# Altium integrated library TI_Logic_Flip-Flop,Latch,Register.IntLib: 2598 symbols (part 30 of 122)
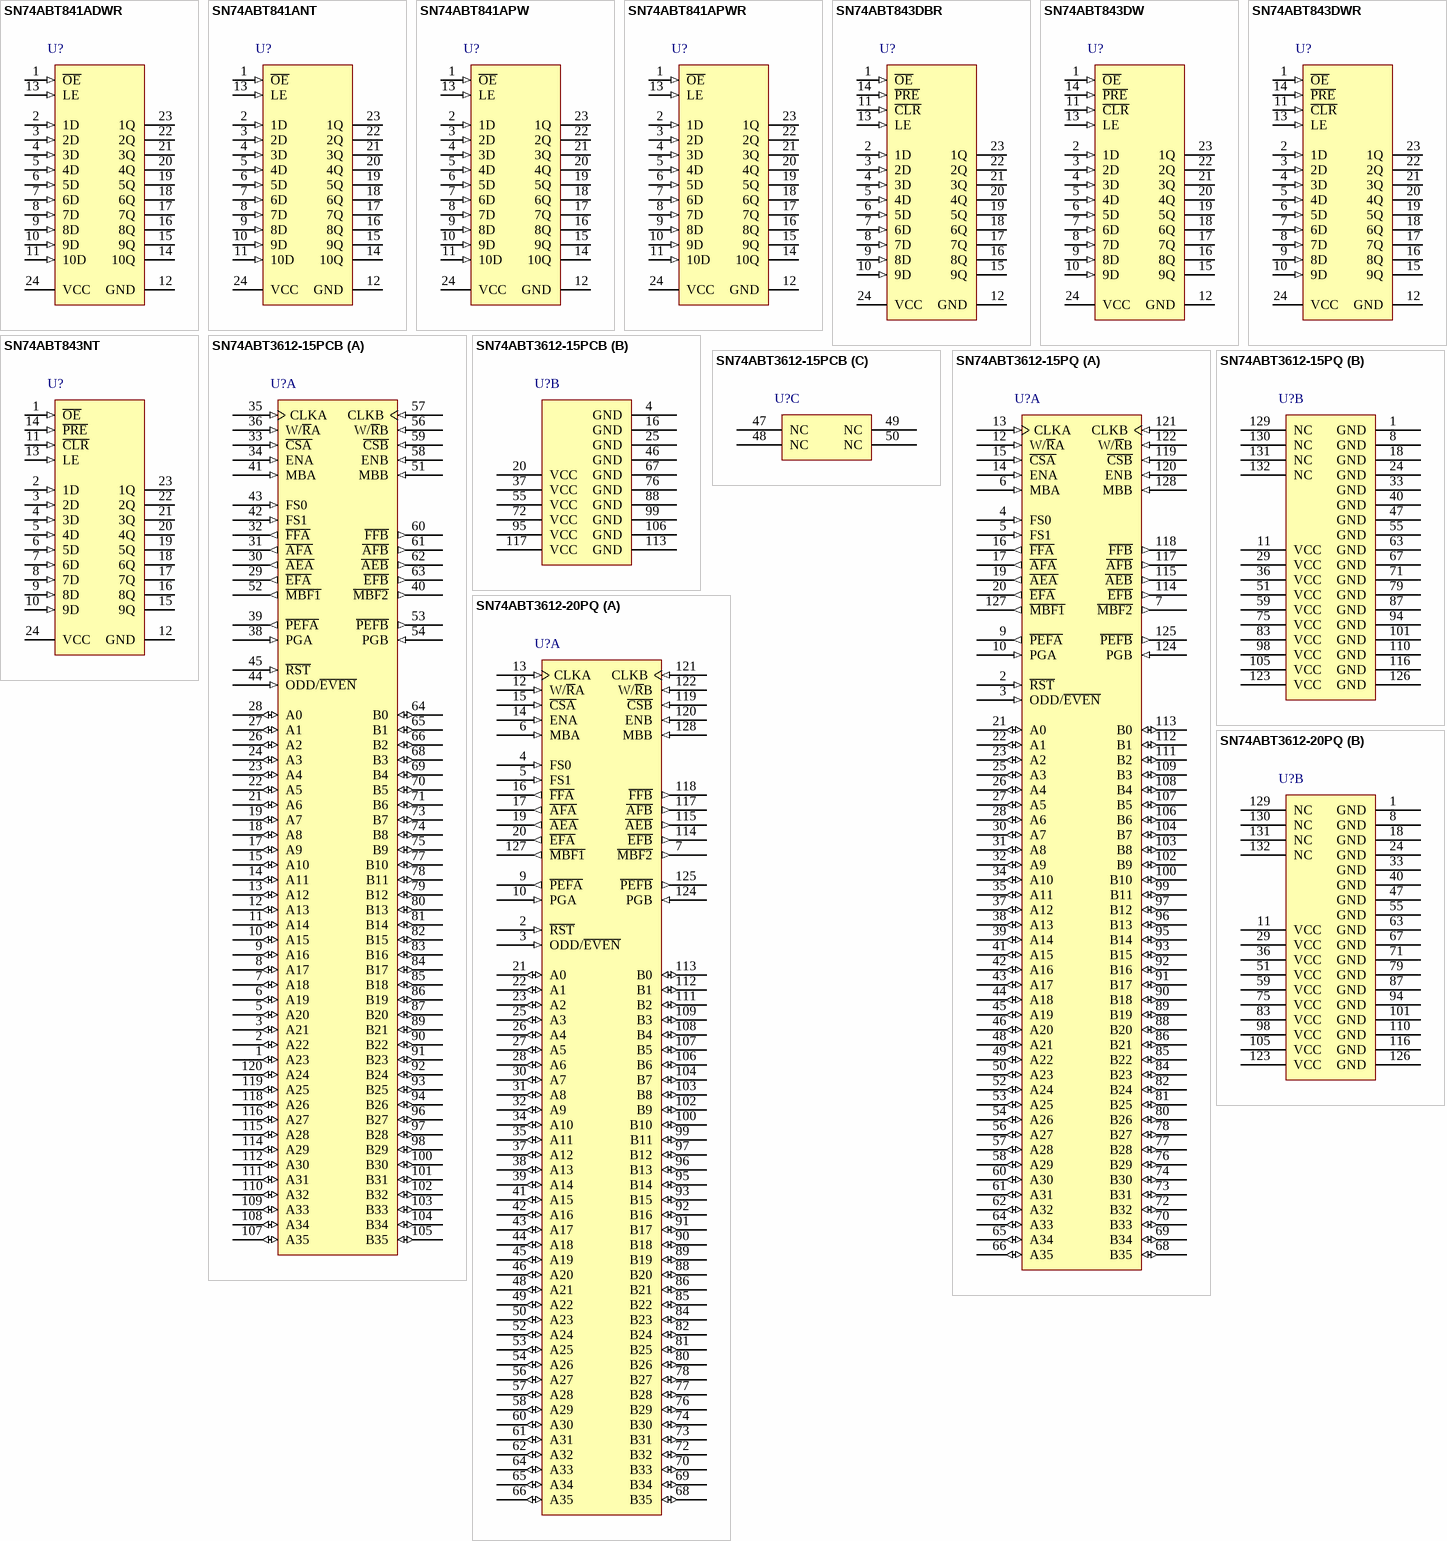
[diagram p168: symbols SN74ABT841ADWR to SN74ABT3612-20PQ]

## SN74ABT3612-15PQ
designator U?
64 x 36 x 2 bidirectional synchronous FIFO memory, PQ0132A, JEDEC TRAY (10+1); Generic Part Number: SN74ABT3612; Manufacturer: Texas Instruments; PartNumber: SN74ABT3612-15PQ; DatasheetVersion: SCBS129G; PackageReference: PQ0132A; Code_JEDEC: MO-069; ComponentLink1Description: Manufacturer URL; ComponentLink1URL: http://www.ti.com/; ComponentLink2Description: Datasheet; ComponentLink2URL: http://www.ti.com/lit/ds/symlink/sn74abt3612.pdf; ComponentLink3Description: Package Specification; ComponentLink3URL: http://www.ti.com/lit/ml/mbqf001a/mbqf001a.pdf
footprint PQ0132A_N (QFP, 132-Leads, Body 24.1x24.1mm, Pitch 0.635mm, IPC Medium Density)
footprint PQ0132A_M (QFP, 132-Leads, Body 24.1x24.1mm, Pitch 0.635mm, IPC Low Density)
footprint PQ0132A_L (QFP, 132-Leads, Body 24.1x24.1mm, Pitch 0.635mm, IPC High Density)
part A pins: 2 ~{RST} (in) "Reset. To reset the device, four low-to-high transitions of CLKA and four low-to-high transitions of CLKB must occur while R\S\T\ is low. This sets A\F\A\, A\F\B\, M\B\F\1\, and M\B\F\2\ high and E\F\A\, E\F\B\, A\E\A\, (See Datasheet)", 3 ODD/~{EVEN} (in) "Odd/even parity select. Odd parity is checked on each port when ODD/E\V\E\N\ is high and even parity is checked when ODD/E\V\E\N\ is low. ODD/E\V\E\N\ also selects the type of parity generated for each port if parity (See Datasheet)", 4 FS0 (in) "Flag-offset selects. The low-to-high transition of R\S\T\ latches the values of FS0 and FS1, which selects one of four preset values for the almost-empty flag and almost-full flag offset.", 5 FS1 (in) "Flag-offset selects. The low-to-high transition of R\S\T\ latches the values of FS0 and FS1, which selects one of four preset values for the almost-empty flag and almost-full flag offset.", 6 MBA (in) "Port-A mailbox select. A high level on MBA chooses a mailbox register for a port-A read or write operation. When the A0-A35 outputs are active, a high level on MBA selects data from the mail2 register for output and a low (See Datasheet)", 7 ~{MBF2} (out) "Mail2 register flag. M\B\F\2\ is set low by the low-to-high transition of CLKB that writes data to the mail2 register. Writes to the mail2 register are inhibited while M\B\F\2\ is low. M\B\F\2\ is set high by a low-to-high (See Datasheet)", 9 ~{PEFA} (out) "Port-A parity error flag. When any byte applied to A0-A35 fails parity, P\E\F\A\ is low. Bytes are organized as A0-A8, A9-A17, A18-A26, and A27-A35, with the most-significant bit of each byte serving as the parity bit. The (See Datasheet)", 10 PGA (in) "Port-A parity generation. Parity is generated for data reads from port A when PGA is high. The type of parity generated is selected by the state of ODD/E\V\E\N\. Bytes are organized as A0-A8, A9-A17, A18-A26, and A27-A35. (See Datasheet)", 12 W/~{R}A (in) "Port-A write/read select. W/R\A high selects a write operation and a low selects a read operation on port A for a low-to-high transition of CLKA. The A0-A35 outputs are in the high-impedance state when W/R\A is high.", 13 CLKA (in) "Port-A clock. CLKA is a continuous clock that synchronizes all data transfers through port A and can be asynchronous or coincident to CLKB. E\F\A\, F\F\A\, A\F\A\, and A\E\A\ are synchronized to the low-to-high transition of (See Datasheet)", 14 ENA (in) "Port-A enable. ENA must be high to enable a low-to-high transition of CLKA to read or write data on port A.", 15 ~{CSA} (in) "Port-A chip select. C\S\A\ must be low to enable a low-to-high transition of CLKA to read or write data on port A. The A0-A35 outputs are in the high-impedance state when C\S\A\ is high.", 16 ~{FFA} (out) "Port-A full flag. F\F\A\ is synchronized to the low-to-high transition of CLKA. When F\F\A\ is low, FIFO1 is full and writes to its memory are disabled. F\F\A\ is forced low when the device is reset and is set high by the (See Datasheet)", 17 ~{AFA} (out) "Port-A almost-full flag. Programmable flag synchronized to CLKA. A\F\A\ is low when the number of empty locations in FIFO1 is less than or equal to the value in offset register X.", 19 ~{AEA} (out) "Port-A almost-empty flag. Programmable flag synchronized to CLKA. A\E\A\ is low when the number of words in FIFO2 is less than or equal to the value in offset register X.", 20 ~{EFA} (out) "Port-A empty flag. E\F\A\ is synchronized to the low-to-high transition of CLKA. When E\F\A is low, FIFO2 is empty and reads from its memory are disabled. Data can be read from FIFO2 to the output register when E\F\A\ is (See Datasheet)", 21 A0 (io) "Port-A data. The 36-bit bidirectional data port for side A.", 22 A1 (io) "Port-A data. The 36-bit bidirectional data port for side A.", 23 A2 (io) "Port-A data. The 36-bit bidirectional data port for side A.", 25 A3 (io) "Port-A data. The 36-bit bidirectional data port for side A.", 26 A4 (io) "Port-A data. The 36-bit bidirectional data port for side A.", 27 A5 (io) "Port-A data. The 36-bit bidirectional data port for side A.", 28 A6 (io) "Port-A data. The 36-bit bidirectional data port for side A.", 30 A7 (io) "Port-A data. The 36-bit bidirectional data port for side A.", 31 A8 (io) "Port-A data. The 36-bit bidirectional data port for side A.", 32 A9 (io) "Port-A data. The 36-bit bidirectional data port for side A.", 34 A10 (io) "Port-A data. The 36-bit bidirectional data port for side A.", 35 A11 (io) "Port-A data. The 36-bit bidirectional data port for side A.", 37 A12 (io) "Port-A data. The 36-bit bidirectional data port for side A.", 38 A13 (io) "Port-A data. The 36-bit bidirectional data port for side A.", 39 A14 (io) "Port-A data. The 36-bit bidirectional data port for side A.", 41 A15 (io) "Port-A data. The 36-bit bidirectional data port for side A.", 42 A16 (io) "Port-A data. The 36-bit bidirectional data port for side A.", 43 A17 (io) "Port-A data. The 36-bit bidirectional data port for side A.", 44 A18 (io) "Port-A data. The 36-bit bidirectional data port for side A.", 45 A19 (io) "Port-A data. The 36-bit bidirectional data port for side A.", 46 A20 (io) "Port-A data. The 36-bit bidirectional data port for side A.", 48 A21 (io) "Port-A data. The 36-bit bidirectional data port for side A.", 49 A22 (io) "Port-A data. The 36-bit bidirectional data port for side A.", 50 A23 (io) "Port-A data. The 36-bit bidirectional data port for side A.", 52 A24 (io) "Port-A data. The 36-bit bidirectional data port for side A.", 53 A25 (io) "Port-A data. The 36-bit bidirectional data port for side A.", 54 A26 (io) "Port-A data. The 36-bit bidirectional data port for side A.", 56 A27 (io) "Port-A data. The 36-bit bidirectional data port for side A.", 57 A28 (io) "Port-A data. The 36-bit bidirectional data port for side A.", 58 A29 (io) "Port-A data. The 36-bit bidirectional data port for side A.", 60 A30 (io) "Port-A data. The 36-bit bidirectional data port for side A.", 61 A31 (io) "Port-A data. The 36-bit bidirectional data port for side A.", 62 A32 (io) "Port-A data. The 36-bit bidirectional data port for side A.", 64 A33 (io) "Port-A data. The 36-bit bidirectional data port for side A.", 65 A34 (io) "Port-A data. The 36-bit bidirectional data port for side A.", 66 A35 (io) "Port-A data. The 36-bit bidirectional data port for side A.", 68 B35 (io) "Port-B data. The 36-bit bidirectional data port for side B.", 69 B34 (io) "Port-B data. The 36-bit bidirectional data port for side B.", 70 B33 (io) "Port-B data. The 36-bit bidirectional data port for side B.", 72 B32 (io) "Port-B data. The 36-bit bidirectional data port for side B.", 73 B31 (io) "Port-B data. The 36-bit bidirectional data port for side B.", 74 B30 (io) "Port-B data. The 36-bit bidirectional data port for side B.", 76 B29 (io) "Port-B data. The 36-bit bidirectional data port for side B.", 77 B28 (io) "Port-B data. The 36-bit bidirectional data port for side B.", 78 B27 (io) "Port-B data. The 36-bit bidirectional data port for side B.", 80 B26 (io) "Port-B data. The 36-bit bidirectional data port for side B.", 81 B25 (io) "Port-B data. The 36-bit bidirectional data port for side B.", 82 B24 (io) "Port-B data. The 36-bit bidirectional data port for side B.", 84 B23 (io) "Port-B data. The 36-bit bidirectional data port for side B.", 85 B22 (io) "Port-B data. The 36-bit bidirectional data port for side B.", 86 B21 (io) "Port-B data. The 36-bit bidirectional data port for side B.", 88 B20 (io) "Port-B data. The 36-bit bidirectional data port for side B.", 89 B19 (io) "Port-B data. The 36-bit bidirectional data port for side B.", 90 B18 (io) "Port-B data. The 36-bit bidirectional data port for side B.", 91 B17 (io) "Port-B data. The 36-bit bidirectional data port for side B.", 92 B16 (io) "Port-B data. The 36-bit bidirectional data port for side B.", 93 B15 (io) "Port-B data. The 36-bit bidirectional data port for side B.", 95 B14 (io) "Port-B data. The 36-bit bidirectional data port for side B.", 96 B13 (io) "Port-B data. The 36-bit bidirectional data port for side B.", 97 B12 (io) "Port-B data. The 36-bit bidirectional data port for side B.", 99 B11 (io) "Port-B data. The 36-bit bidirectional data port for side B.", 100 B10 (io) "Port-B data. The 36-bit bidirectional data port for side B.", 102 B9 (io) "Port-B data. The 36-bit bidirectional data port for side B.", 103 B8 (io) "Port-B data. The 36-bit bidirectional data port for side B.", 104 B7 (io) "Port-B data. The 36-bit bidirectional data port for side B.", 106 B6 (io) "Port-B data. The 36-bit bidirectional data port for side B.", 107 B5 (io) "Port-B data. The 36-bit bidirectional data port for side B.", 108 B4 (io) "Port-B data. The 36-bit bidirectional data port for side B.", 109 B3 (io) "Port-B data. The 36-bit bidirectional data port for side B.", 111 B2 (io) "Port-B data. The 36-bit bidirectional data port for side B.", 112 B1 (io) "Port-B data. The 36-bit bidirectional data port for side B.", 113 B0 (io) "Port-B data. The 36-bit bidirectional data port for side B.", 114 ~{EFB} (out) "Port-B empty flag. E\F\B\ is synchronized to the low-to-high transition of CLKB. When E\F\B\ is low, FIFO1 is empty and reads from its memory are disabled. Data can be read from FIFO1 to the output register when E\F\B\ is (See Datasheet)", 115 ~{AEB} (out) "Port-B almost-empty flag. Programmable flag synchronized to CLKB. A\E\B\ is low when the number of words in FIFO1 is less than or equal to the value in offset register X.", 117 ~{AFB} (out) "Port-B almost-full flag. Programmable flag synchronized to CLKB. A\F\B\ is low when the number of empty locations in FIFO2 is less than or equal to the value in offset register X.", 118 ~{FFB} (out) "Port-B full flag. F\F\B\ is synchronized to the low-to-high transition of CLKB. When F\F\B\ is low, FIFO2 is full and writes to its memory are disabled. F\F\B\ is forced low when the device is reset and is set high by the (See Datasheet)", 119 ~{CSB} (in) "Port-B chip select. C\S\B\ must be low to enable a low-to-high transition of CLKB to read or write data on port B. The B0-B35 outputs are in the high-impedance state when C\S\B\ is high.", 120 ENB (in) "Port-B enable. ENB must be high to enable a low-to-high transition of CLKB to read or write data on port B.", 121 CLKB (in) "Port-B clock. CLKB is a continuous clock that synchronizes all data transfers through port B and can be asynchronous or coincident to CLKA. E\F\B\, F\F\B\, A\F\B\, and A\E\B\ are synchronized to the low-to-high transition of (See Datasheet)", 122 W/~{R}B (in) "Port-B write/read select. W/R\B high selects a write operation and a low selects a read operation on port B for a low-to-high transition of CLKB. The B0-B35 outputs are in the high-impedance state when W/R\B is high.", 124 PGB (in) "Port-B parity generation. Parity is generated for data reads from port B when PGB is high. The type of parity generated is selected by the state of ODD/E\V\E\N\. Bytes are organized as B0-B8, B9-B17, B18-B26, and B27-B35. (See Datasheet)", 125 ~{PEFB} (out) "Port-B parity error flag. When any byte applied to terminals B0-B35 fails parity, P\E\F\B\ is low. Bytes are organized as B0-B8, B9-B17, B18-B26, and B27-B35, with the most-significant bit of each byte serving as the parity (See Datasheet)", 127 ~{MBF1} (out) "Mail1 register flag. M\B\F\1\ is set low by the low-to-high transition of CLKA that writes data to the mail1 register. Writes to the mail1 register are inhibited while M\B\F\1\ is low. M\B\F\1\ is set high by a low-to-high (See Datasheet)", 128 MBB (in) "Port-B mailbox select. A high level on MBB chooses a mailbox register for a port-B read or write operation. When the B0-B35 outputs are active, a high level on MBB selects data from the mail1 register for output and a low (See Datasheet)"
part B pins: 1 GND (power), 8 GND (power), 11 VCC (power), 18 GND (power), 24 GND (power), 29 VCC (power), 33 GND (power), 36 VCC (power), 40 GND (power), 47 GND (power), 51 VCC (power), 55 GND (power), 59 VCC (power), 63 GND (power), 67 GND (power), 71 GND (power), 75 VCC (power), 79 GND (power), 83 VCC (power), 87 GND (power), 94 GND (power), 98 VCC (power), 101 GND (power), 105 VCC (power), 110 GND (power), 116 GND (power), 123 VCC (power), 126 GND (power), 129 NC, 130 NC, 131 NC, 132 NC

## SN74ABT3612-20PQ
designator U?
64 x 36 x 2 bidirectional synchronous FIFO memory, PQ0132A, JEDEC TRAY (10+1); Generic Part Number: SN74ABT3612; Manufacturer: Texas Instruments; PartNumber: SN74ABT3612-20PQ; DatasheetVersion: SCBS129G; PackageReference: PQ0132A; Code_JEDEC: MO-069; ComponentLink1Description: Manufacturer URL; ComponentLink1URL: http://www.ti.com/; ComponentLink2Description: Datasheet; ComponentLink2URL: http://www.ti.com/lit/ds/symlink/sn74abt3612.pdf; ComponentLink3Description: Package Specification; ComponentLink3URL: http://www.ti.com/lit/ml/mbqf001a/mbqf001a.pdf
footprint PQ0132A_N (QFP, 132-Leads, Body 24.1x24.1mm, Pitch 0.635mm, IPC Medium Density)
footprint PQ0132A_M (QFP, 132-Leads, Body 24.1x24.1mm, Pitch 0.635mm, IPC Low Density)
footprint PQ0132A_L (QFP, 132-Leads, Body 24.1x24.1mm, Pitch 0.635mm, IPC High Density)
part A pins: 2 ~{RST} (in) "Reset. To reset the device, four low-to-high transitions of CLKA and four low-to-high transitions of CLKB must occur while R\S\T\ is low. This sets A\F\A\, A\F\B\, M\B\F\1\, and M\B\F\2\ high and E\F\A\, E\F\B\, A\E\A\, (See Datasheet)", 3 ODD/~{EVEN} (in) "Odd/even parity select. Odd parity is checked on each port when ODD/E\V\E\N\ is high and even parity is checked when ODD/E\V\E\N\ is low. ODD/E\V\E\N\ also selects the type of parity generated for each port if parity (See Datasheet)", 4 FS0 (in) "Flag-offset selects. The low-to-high transition of R\S\T\ latches the values of FS0 and FS1, which selects one of four preset values for the almost-empty flag and almost-full flag offset.", 5 FS1 (in) "Flag-offset selects. The low-to-high transition of R\S\T\ latches the values of FS0 and FS1, which selects one of four preset values for the almost-empty flag and almost-full flag offset.", 6 MBA (in) "Port-A mailbox select. A high level on MBA chooses a mailbox register for a port-A read or write operation. When the A0-A35 outputs are active, a high level on MBA selects data from the mail2 register for output and a low (See Datasheet)", 7 ~{MBF2} (out) "Mail2 register flag. M\B\F\2\ is set low by the low-to-high transition of CLKB that writes data to the mail2 register. Writes to the mail2 register are inhibited while M\B\F\2\ is low. M\B\F\2\ is set high by a low-to-high (See Datasheet)", 9 ~{PEFA} (out) "Port-A parity error flag. When any byte applied to A0-A35 fails parity, P\E\F\A\ is low. Bytes are organized as A0-A8, A9-A17, A18-A26, and A27-A35, with the most-significant bit of each byte serving as the parity bit. The (See Datasheet)", 10 PGA (in) "Port-A parity generation. Parity is generated for data reads from port A when PGA is high. The type of parity generated is selected by the state of ODD/E\V\E\N\. Bytes are organized as A0-A8, A9-A17, A18-A26, and A27-A35. (See Datasheet)", 12 W/~{R}A (in) "Port-A write/read select. W/R\A high selects a write operation and a low selects a read operation on port A for a low-to-high transition of CLKA. The A0-A35 outputs are in the high-impedance state when W/R\A is high.", 13 CLKA (in) "Port-A clock. CLKA is a continuous clock that synchronizes all data transfers through port A and can be asynchronous or coincident to CLKB. E\F\A\, F\F\A\, A\F\A\, and A\E\A\ are synchronized to the low-to-high transition of (See Datasheet)", 14 ENA (in) "Port-A enable. ENA must be high to enable a low-to-high transition of CLKA to read or write data on port A.", 15 ~{CSA} (in) "Port-A chip select. C\S\A\ must be low to enable a low-to-high transition of CLKA to read or write data on port A. The A0-A35 outputs are in the high-impedance state when C\S\A\ is high.", 16 ~{FFA} (out) "Port-A full flag. F\F\A\ is synchronized to the low-to-high transition of CLKA. When F\F\A\ is low, FIFO1 is full and writes to its memory are disabled. F\F\A\ is forced low when the device is reset and is set high by the (See Datasheet)", 17 ~{AFA} (out) "Port-A almost-full flag. Programmable flag synchronized to CLKA. A\F\A\ is low when the number of empty locations in FIFO1 is less than or equal to the value in offset register X.", 19 ~{AEA} (out) "Port-A almost-empty flag. Programmable flag synchronized to CLKA. A\E\A\ is low when the number of words in FIFO2 is less than or equal to the value in offset register X.", 20 ~{EFA} (out) "Port-A empty flag. E\F\A\ is synchronized to the low-to-high transition of CLKA. When E\F\A is low, FIFO2 is empty and reads from its memory are disabled. Data can be read from FIFO2 to the output register when E\F\A\ is (See Datasheet)", 21 A0 (io) "Port-A data. The 36-bit bidirectional data port for side A.", 22 A1 (io) "Port-A data. The 36-bit bidirectional data port for side A.", 23 A2 (io) "Port-A data. The 36-bit bidirectional data port for side A.", 25 A3 (io) "Port-A data. The 36-bit bidirectional data port for side A.", 26 A4 (io) "Port-A data. The 36-bit bidirectional data port for side A.", 27 A5 (io) "Port-A data. The 36-bit bidirectional data port for side A.", 28 A6 (io) "Port-A data. The 36-bit bidirectional data port for side A.", 30 A7 (io) "Port-A data. The 36-bit bidirectional data port for side A.", 31 A8 (io) "Port-A data. The 36-bit bidirectional data port for side A.", 32 A9 (io) "Port-A data. The 36-bit bidirectional data port for side A.", 34 A10 (io) "Port-A data. The 36-bit bidirectional data port for side A.", 35 A11 (io) "Port-A data. The 36-bit bidirectional data port for side A.", 37 A12 (io) "Port-A data. The 36-bit bidirectional data port for side A.", 38 A13 (io) "Port-A data. The 36-bit bidirectional data port for side A.", 39 A14 (io) "Port-A data. The 36-bit bidirectional data port for side A.", 41 A15 (io) "Port-A data. The 36-bit bidirectional data port for side A.", 42 A16 (io) "Port-A data. The 36-bit bidirectional data port for side A.", 43 A17 (io) "Port-A data. The 36-bit bidirectional data port for side A.", 44 A18 (io) "Port-A data. The 36-bit bidirectional data port for side A.", 45 A19 (io) "Port-A data. The 36-bit bidirectional data port for side A.", 46 A20 (io) "Port-A data. The 36-bit bidirectional data port for side A.", 48 A21 (io) "Port-A data. The 36-bit bidirectional data port for side A.", 49 A22 (io) "Port-A data. The 36-bit bidirectional data port for side A.", 50 A23 (io) "Port-A data. The 36-bit bidirectional data port for side A.", 52 A24 (io) "Port-A data. The 36-bit bidirectional data port for side A.", 53 A25 (io) "Port-A data. The 36-bit bidirectional data port for side A.", 54 A26 (io) "Port-A data. The 36-bit bidirectional data port for side A.", 56 A27 (io) "Port-A data. The 36-bit bidirectional data port for side A.", 57 A28 (io) "Port-A data. The 36-bit bidirectional data port for side A.", 58 A29 (io) "Port-A data. The 36-bit bidirectional data port for side A.", 60 A30 (io) "Port-A data. The 36-bit bidirectional data port for side A.", 61 A31 (io) "Port-A data. The 36-bit bidirectional data port for side A.", 62 A32 (io) "Port-A data. The 36-bit bidirectional data port for side A.", 64 A33 (io) "Port-A data. The 36-bit bidirectional data port for side A.", 65 A34 (io) "Port-A data. The 36-bit bidirectional data port for side A.", 66 A35 (io) "Port-A data. The 36-bit bidirectional data port for side A.", 68 B35 (io) "Port-B data. The 36-bit bidirectional data port for side B.", 69 B34 (io) "Port-B data. The 36-bit bidirectional data port for side B.", 70 B33 (io) "Port-B data. The 36-bit bidirectional data port for side B.", 72 B32 (io) "Port-B data. The 36-bit bidirectional data port for side B.", 73 B31 (io) "Port-B data. The 36-bit bidirectional data port for side B.", 74 B30 (io) "Port-B data. The 36-bit bidirectional data port for side B.", 76 B29 (io) "Port-B data. The 36-bit bidirectional data port for side B.", 77 B28 (io) "Port-B data. The 36-bit bidirectional data port for side B.", 78 B27 (io) "Port-B data. The 36-bit bidirectional data port for side B.", 80 B26 (io) "Port-B data. The 36-bit bidirectional data port for side B.", 81 B25 (io) "Port-B data. The 36-bit bidirectional data port for side B.", 82 B24 (io) "Port-B data. The 36-bit bidirectional data port for side B.", 84 B23 (io) "Port-B data. The 36-bit bidirectional data port for side B.", 85 B22 (io) "Port-B data. The 36-bit bidirectional data port for side B.", 86 B21 (io) "Port-B data. The 36-bit bidirectional data port for side B.", 88 B20 (io) "Port-B data. The 36-bit bidirectional data port for side B.", 89 B19 (io) "Port-B data. The 36-bit bidirectional data port for side B.", 90 B18 (io) "Port-B data. The 36-bit bidirectional data port for side B.", 91 B17 (io) "Port-B data. The 36-bit bidirectional data port for side B.", 92 B16 (io) "Port-B data. The 36-bit bidirectional data port for side B.", 93 B15 (io) "Port-B data. The 36-bit bidirectional data port for side B.", 95 B14 (io) "Port-B data. The 36-bit bidirectional data port for side B.", 96 B13 (io) "Port-B data. The 36-bit bidirectional data port for side B.", 97 B12 (io) "Port-B data. The 36-bit bidirectional data port for side B.", 99 B11 (io) "Port-B data. The 36-bit bidirectional data port for side B.", 100 B10 (io) "Port-B data. The 36-bit bidirectional data port for side B.", 102 B9 (io) "Port-B data. The 36-bit bidirectional data port for side B.", 103 B8 (io) "Port-B data. The 36-bit bidirectional data port for side B.", 104 B7 (io) "Port-B data. The 36-bit bidirectional data port for side B.", 106 B6 (io) "Port-B data. The 36-bit bidirectional data port for side B.", 107 B5 (io) "Port-B data. The 36-bit bidirectional data port for side B.", 108 B4 (io) "Port-B data. The 36-bit bidirectional data port for side B.", 109 B3 (io) "Port-B data. The 36-bit bidirectional data port for side B.", 111 B2 (io) "Port-B data. The 36-bit bidirectional data port for side B.", 112 B1 (io) "Port-B data. The 36-bit bidirectional data port for side B.", 113 B0 (io) "Port-B data. The 36-bit bidirectional data port for side B.", 114 ~{EFB} (out) "Port-B empty flag. E\F\B\ is synchronized to the low-to-high transition of CLKB. When E\F\B\ is low, FIFO1 is empty and reads from its memory are disabled. Data can be read from FIFO1 to the output register when E\F\B\ is (See Datasheet)", 115 ~{AEB} (out) "Port-B almost-empty flag. Programmable flag synchronized to CLKB. A\E\B\ is low when the number of words in FIFO1 is less than or equal to the value in offset register X.", 117 ~{AFB} (out) "Port-B almost-full flag. Programmable flag synchronized to CLKB. A\F\B\ is low when the number of empty locations in FIFO2 is less than or equal to the value in offset register X.", 118 ~{FFB} (out) "Port-B full flag. F\F\B\ is synchronized to the low-to-high transition of CLKB. When F\F\B\ is low, FIFO2 is full and writes to its memory are disabled. F\F\B\ is forced low when the device is reset and is set high by the (See Datasheet)", 119 ~{CSB} (in) "Port-B chip select. C\S\B\ must be low to enable a low-to-high transition of CLKB to read or write data on port B. The B0-B35 outputs are in the high-impedance state when C\S\B\ is high.", 120 ENB (in) "Port-B enable. ENB must be high to enable a low-to-high transition of CLKB to read or write data on port B.", 121 CLKB (in) "Port-B clock. CLKB is a continuous clock that synchronizes all data transfers through port B and can be asynchronous or coincident to CLKA. E\F\B\, F\F\B\, A\F\B\, and A\E\B\ are synchronized to the low-to-high transition of (See Datasheet)", 122 W/~{R}B (in) "Port-B write/read select. W/R\B high selects a write operation and a low selects a read operation on port B for a low-to-high transition of CLKB. The B0-B35 outputs are in the high-impedance state when W/R\B is high.", 124 PGB (in) "Port-B parity generation. Parity is generated for data reads from port B when PGB is high. The type of parity generated is selected by the state of ODD/E\V\E\N\. Bytes are organized as B0-B8, B9-B17, B18-B26, and B27-B35. (See Datasheet)", 125 ~{PEFB} (out) "Port-B parity error flag. When any byte applied to terminals B0-B35 fails parity, P\E\F\B\ is low. Bytes are organized as B0-B8, B9-B17, B18-B26, and B27-B35, with the most-significant bit of each byte serving as the parity (See Datasheet)", 127 ~{MBF1} (out) "Mail1 register flag. M\B\F\1\ is set low by the low-to-high transition of CLKA that writes data to the mail1 register. Writes to the mail1 register are inhibited while M\B\F\1\ is low. M\B\F\1\ is set high by a low-to-high (See Datasheet)", 128 MBB (in) "Port-B mailbox select. A high level on MBB chooses a mailbox register for a port-B read or write operation. When the B0-B35 outputs are active, a high level on MBB selects data from the mail1 register for output and a low (See Datasheet)"
part B pins: 1 GND (power), 8 GND (power), 11 VCC (power), 18 GND (power), 24 GND (power), 29 VCC (power), 33 GND (power), 36 VCC (power), 40 GND (power), 47 GND (power), 51 VCC (power), 55 GND (power), 59 VCC (power), 63 GND (power), 67 GND (power), 71 GND (power), 75 VCC (power), 79 GND (power), 83 VCC (power), 87 GND (power), 94 GND (power), 98 VCC (power), 101 GND (power), 105 VCC (power), 110 GND (power), 116 GND (power), 123 VCC (power), 126 GND (power), 129 NC, 130 NC, 131 NC, 132 NC

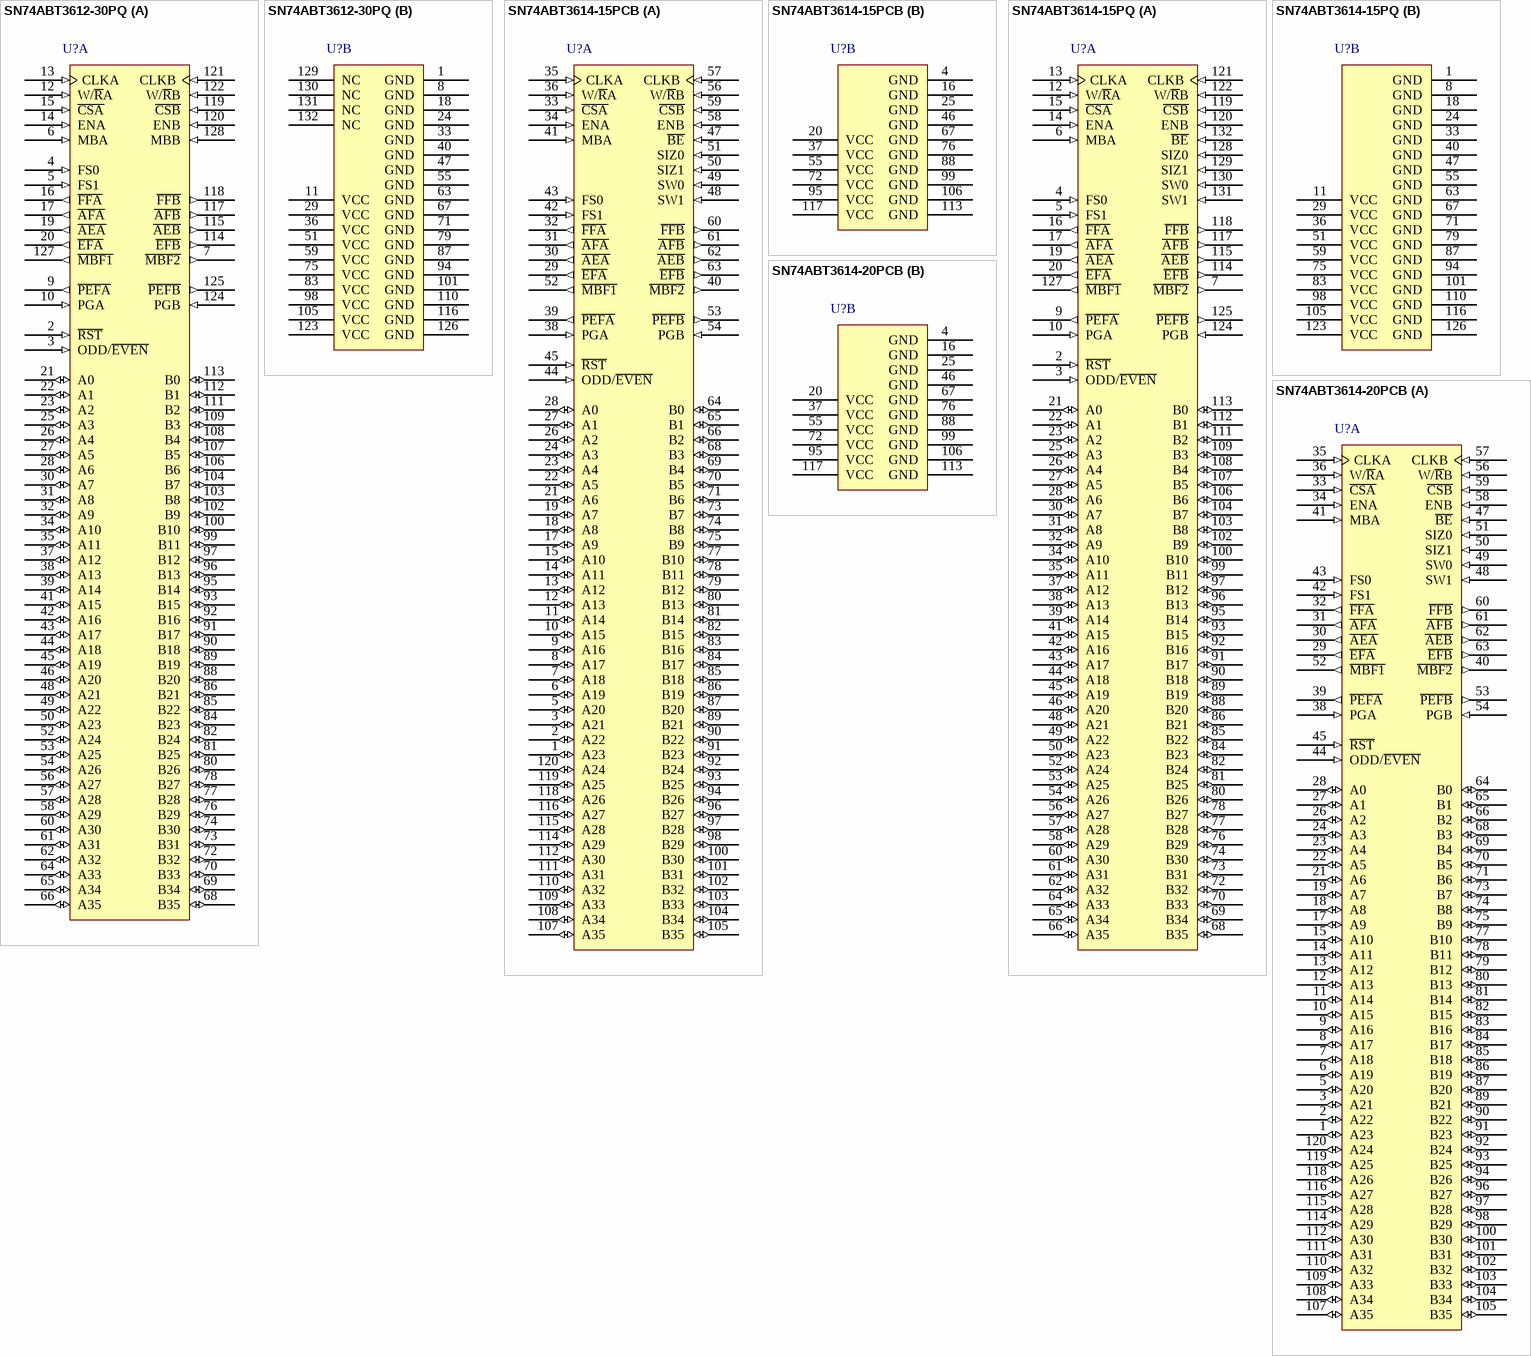
[diagram p43: symbols SN74ABT3612-30PQ to SN74ABT3614-20PCB]

## SN74ABT3612-30PQ
designator U?
64 x 36 x 2 bidirectional synchronous FIFO memory, PQ0132A, JEDEC TRAY (10+1); Generic Part Number: SN74ABT3612; Manufacturer: Texas Instruments; PartNumber: SN74ABT3612-30PQ; DatasheetVersion: SCBS129G; PackageReference: PQ0132A; Code_JEDEC: MO-069; ComponentLink1Description: Manufacturer URL; ComponentLink1URL: http://www.ti.com/; ComponentLink2Description: Datasheet; ComponentLink2URL: http://www.ti.com/lit/ds/symlink/sn74abt3612.pdf; ComponentLink3Description: Package Specification; ComponentLink3URL: http://www.ti.com/lit/ml/mbqf001a/mbqf001a.pdf
footprint PQ0132A_N (QFP, 132-Leads, Body 24.1x24.1mm, Pitch 0.635mm, IPC Medium Density)
footprint PQ0132A_M (QFP, 132-Leads, Body 24.1x24.1mm, Pitch 0.635mm, IPC Low Density)
footprint PQ0132A_L (QFP, 132-Leads, Body 24.1x24.1mm, Pitch 0.635mm, IPC High Density)
part A pins: 2 ~{RST} (in) "Reset. To reset the device, four low-to-high transitions of CLKA and four low-to-high transitions of CLKB must occur while R\S\T\ is low. This sets A\F\A\, A\F\B\, M\B\F\1\, and M\B\F\2\ high and E\F\A\, E\F\B\, A\E\A\, (See Datasheet)", 3 ODD/~{EVEN} (in) "Odd/even parity select. Odd parity is checked on each port when ODD/E\V\E\N\ is high and even parity is checked when ODD/E\V\E\N\ is low. ODD/E\V\E\N\ also selects the type of parity generated for each port if parity (See Datasheet)", 4 FS0 (in) "Flag-offset selects. The low-to-high transition of R\S\T\ latches the values of FS0 and FS1, which selects one of four preset values for the almost-empty flag and almost-full flag offset.", 5 FS1 (in) "Flag-offset selects. The low-to-high transition of R\S\T\ latches the values of FS0 and FS1, which selects one of four preset values for the almost-empty flag and almost-full flag offset.", 6 MBA (in) "Port-A mailbox select. A high level on MBA chooses a mailbox register for a port-A read or write operation. When the A0-A35 outputs are active, a high level on MBA selects data from the mail2 register for output and a low (See Datasheet)", 7 ~{MBF2} (out) "Mail2 register flag. M\B\F\2\ is set low by the low-to-high transition of CLKB that writes data to the mail2 register. Writes to the mail2 register are inhibited while M\B\F\2\ is low. M\B\F\2\ is set high by a low-to-high (See Datasheet)", 9 ~{PEFA} (out) "Port-A parity error flag. When any byte applied to A0-A35 fails parity, P\E\F\A\ is low. Bytes are organized as A0-A8, A9-A17, A18-A26, and A27-A35, with the most-significant bit of each byte serving as the parity bit. The (See Datasheet)", 10 PGA (in) "Port-A parity generation. Parity is generated for data reads from port A when PGA is high. The type of parity generated is selected by the state of ODD/E\V\E\N\. Bytes are organized as A0-A8, A9-A17, A18-A26, and A27-A35. (See Datasheet)", 12 W/~{R}A (in) "Port-A write/read select. W/R\A high selects a write operation and a low selects a read operation on port A for a low-to-high transition of CLKA. The A0-A35 outputs are in the high-impedance state when W/R\A is high.", 13 CLKA (in) "Port-A clock. CLKA is a continuous clock that synchronizes all data transfers through port A and can be asynchronous or coincident to CLKB. E\F\A\, F\F\A\, A\F\A\, and A\E\A\ are synchronized to the low-to-high transition of (See Datasheet)", 14 ENA (in) "Port-A enable. ENA must be high to enable a low-to-high transition of CLKA to read or write data on port A.", 15 ~{CSA} (in) "Port-A chip select. C\S\A\ must be low to enable a low-to-high transition of CLKA to read or write data on port A. The A0-A35 outputs are in the high-impedance state when C\S\A\ is high.", 16 ~{FFA} (out) "Port-A full flag. F\F\A\ is synchronized to the low-to-high transition of CLKA. When F\F\A\ is low, FIFO1 is full and writes to its memory are disabled. F\F\A\ is forced low when the device is reset and is set high by the (See Datasheet)", 17 ~{AFA} (out) "Port-A almost-full flag. Programmable flag synchronized to CLKA. A\F\A\ is low when the number of empty locations in FIFO1 is less than or equal to the value in offset register X.", 19 ~{AEA} (out) "Port-A almost-empty flag. Programmable flag synchronized to CLKA. A\E\A\ is low when the number of words in FIFO2 is less than or equal to the value in offset register X.", 20 ~{EFA} (out) "Port-A empty flag. E\F\A\ is synchronized to the low-to-high transition of CLKA. When E\F\A is low, FIFO2 is empty and reads from its memory are disabled. Data can be read from FIFO2 to the output register when E\F\A\ is (See Datasheet)", 21 A0 (io) "Port-A data. The 36-bit bidirectional data port for side A.", 22 A1 (io) "Port-A data. The 36-bit bidirectional data port for side A.", 23 A2 (io) "Port-A data. The 36-bit bidirectional data port for side A.", 25 A3 (io) "Port-A data. The 36-bit bidirectional data port for side A.", 26 A4 (io) "Port-A data. The 36-bit bidirectional data port for side A.", 27 A5 (io) "Port-A data. The 36-bit bidirectional data port for side A.", 28 A6 (io) "Port-A data. The 36-bit bidirectional data port for side A.", 30 A7 (io) "Port-A data. The 36-bit bidirectional data port for side A.", 31 A8 (io) "Port-A data. The 36-bit bidirectional data port for side A.", 32 A9 (io) "Port-A data. The 36-bit bidirectional data port for side A.", 34 A10 (io) "Port-A data. The 36-bit bidirectional data port for side A.", 35 A11 (io) "Port-A data. The 36-bit bidirectional data port for side A.", 37 A12 (io) "Port-A data. The 36-bit bidirectional data port for side A.", 38 A13 (io) "Port-A data. The 36-bit bidirectional data port for side A.", 39 A14 (io) "Port-A data. The 36-bit bidirectional data port for side A.", 41 A15 (io) "Port-A data. The 36-bit bidirectional data port for side A.", 42 A16 (io) "Port-A data. The 36-bit bidirectional data port for side A.", 43 A17 (io) "Port-A data. The 36-bit bidirectional data port for side A.", 44 A18 (io) "Port-A data. The 36-bit bidirectional data port for side A.", 45 A19 (io) "Port-A data. The 36-bit bidirectional data port for side A.", 46 A20 (io) "Port-A data. The 36-bit bidirectional data port for side A.", 48 A21 (io) "Port-A data. The 36-bit bidirectional data port for side A.", 49 A22 (io) "Port-A data. The 36-bit bidirectional data port for side A.", 50 A23 (io) "Port-A data. The 36-bit bidirectional data port for side A.", 52 A24 (io) "Port-A data. The 36-bit bidirectional data port for side A.", 53 A25 (io) "Port-A data. The 36-bit bidirectional data port for side A.", 54 A26 (io) "Port-A data. The 36-bit bidirectional data port for side A.", 56 A27 (io) "Port-A data. The 36-bit bidirectional data port for side A.", 57 A28 (io) "Port-A data. The 36-bit bidirectional data port for side A.", 58 A29 (io) "Port-A data. The 36-bit bidirectional data port for side A.", 60 A30 (io) "Port-A data. The 36-bit bidirectional data port for side A.", 61 A31 (io) "Port-A data. The 36-bit bidirectional data port for side A.", 62 A32 (io) "Port-A data. The 36-bit bidirectional data port for side A.", 64 A33 (io) "Port-A data. The 36-bit bidirectional data port for side A.", 65 A34 (io) "Port-A data. The 36-bit bidirectional data port for side A.", 66 A35 (io) "Port-A data. The 36-bit bidirectional data port for side A.", 68 B35 (io) "Port-B data. The 36-bit bidirectional data port for side B.", 69 B34 (io) "Port-B data. The 36-bit bidirectional data port for side B.", 70 B33 (io) "Port-B data. The 36-bit bidirectional data port for side B.", 72 B32 (io) "Port-B data. The 36-bit bidirectional data port for side B.", 73 B31 (io) "Port-B data. The 36-bit bidirectional data port for side B.", 74 B30 (io) "Port-B data. The 36-bit bidirectional data port for side B.", 76 B29 (io) "Port-B data. The 36-bit bidirectional data port for side B.", 77 B28 (io) "Port-B data. The 36-bit bidirectional data port for side B.", 78 B27 (io) "Port-B data. The 36-bit bidirectional data port for side B.", 80 B26 (io) "Port-B data. The 36-bit bidirectional data port for side B.", 81 B25 (io) "Port-B data. The 36-bit bidirectional data port for side B.", 82 B24 (io) "Port-B data. The 36-bit bidirectional data port for side B.", 84 B23 (io) "Port-B data. The 36-bit bidirectional data port for side B.", 85 B22 (io) "Port-B data. The 36-bit bidirectional data port for side B.", 86 B21 (io) "Port-B data. The 36-bit bidirectional data port for side B.", 88 B20 (io) "Port-B data. The 36-bit bidirectional data port for side B.", 89 B19 (io) "Port-B data. The 36-bit bidirectional data port for side B.", 90 B18 (io) "Port-B data. The 36-bit bidirectional data port for side B.", 91 B17 (io) "Port-B data. The 36-bit bidirectional data port for side B.", 92 B16 (io) "Port-B data. The 36-bit bidirectional data port for side B.", 93 B15 (io) "Port-B data. The 36-bit bidirectional data port for side B.", 95 B14 (io) "Port-B data. The 36-bit bidirectional data port for side B.", 96 B13 (io) "Port-B data. The 36-bit bidirectional data port for side B.", 97 B12 (io) "Port-B data. The 36-bit bidirectional data port for side B.", 99 B11 (io) "Port-B data. The 36-bit bidirectional data port for side B.", 100 B10 (io) "Port-B data. The 36-bit bidirectional data port for side B.", 102 B9 (io) "Port-B data. The 36-bit bidirectional data port for side B.", 103 B8 (io) "Port-B data. The 36-bit bidirectional data port for side B.", 104 B7 (io) "Port-B data. The 36-bit bidirectional data port for side B.", 106 B6 (io) "Port-B data. The 36-bit bidirectional data port for side B.", 107 B5 (io) "Port-B data. The 36-bit bidirectional data port for side B.", 108 B4 (io) "Port-B data. The 36-bit bidirectional data port for side B.", 109 B3 (io) "Port-B data. The 36-bit bidirectional data port for side B.", 111 B2 (io) "Port-B data. The 36-bit bidirectional data port for side B.", 112 B1 (io) "Port-B data. The 36-bit bidirectional data port for side B.", 113 B0 (io) "Port-B data. The 36-bit bidirectional data port for side B.", 114 ~{EFB} (out) "Port-B empty flag. E\F\B\ is synchronized to the low-to-high transition of CLKB. When E\F\B\ is low, FIFO1 is empty and reads from its memory are disabled. Data can be read from FIFO1 to the output register when E\F\B\ is (See Datasheet)", 115 ~{AEB} (out) "Port-B almost-empty flag. Programmable flag synchronized to CLKB. A\E\B\ is low when the number of words in FIFO1 is less than or equal to the value in offset register X.", 117 ~{AFB} (out) "Port-B almost-full flag. Programmable flag synchronized to CLKB. A\F\B\ is low when the number of empty locations in FIFO2 is less than or equal to the value in offset register X.", 118 ~{FFB} (out) "Port-B full flag. F\F\B\ is synchronized to the low-to-high transition of CLKB. When F\F\B\ is low, FIFO2 is full and writes to its memory are disabled. F\F\B\ is forced low when the device is reset and is set high by the (See Datasheet)", 119 ~{CSB} (in) "Port-B chip select. C\S\B\ must be low to enable a low-to-high transition of CLKB to read or write data on port B. The B0-B35 outputs are in the high-impedance state when C\S\B\ is high.", 120 ENB (in) "Port-B enable. ENB must be high to enable a low-to-high transition of CLKB to read or write data on port B.", 121 CLKB (in) "Port-B clock. CLKB is a continuous clock that synchronizes all data transfers through port B and can be asynchronous or coincident to CLKA. E\F\B\, F\F\B\, A\F\B\, and A\E\B\ are synchronized to the low-to-high transition of (See Datasheet)", 122 W/~{R}B (in) "Port-B write/read select. W/R\B high selects a write operation and a low selects a read operation on port B for a low-to-high transition of CLKB. The B0-B35 outputs are in the high-impedance state when W/R\B is high.", 124 PGB (in) "Port-B parity generation. Parity is generated for data reads from port B when PGB is high. The type of parity generated is selected by the state of ODD/E\V\E\N\. Bytes are organized as B0-B8, B9-B17, B18-B26, and B27-B35. (See Datasheet)", 125 ~{PEFB} (out) "Port-B parity error flag. When any byte applied to terminals B0-B35 fails parity, P\E\F\B\ is low. Bytes are organized as B0-B8, B9-B17, B18-B26, and B27-B35, with the most-significant bit of each byte serving as the parity (See Datasheet)", 127 ~{MBF1} (out) "Mail1 register flag. M\B\F\1\ is set low by the low-to-high transition of CLKA that writes data to the mail1 register. Writes to the mail1 register are inhibited while M\B\F\1\ is low. M\B\F\1\ is set high by a low-to-high (See Datasheet)", 128 MBB (in) "Port-B mailbox select. A high level on MBB chooses a mailbox register for a port-B read or write operation. When the B0-B35 outputs are active, a high level on MBB selects data from the mail1 register for output and a low (See Datasheet)"
part B pins: 1 GND (power), 8 GND (power), 11 VCC (power), 18 GND (power), 24 GND (power), 29 VCC (power), 33 GND (power), 36 VCC (power), 40 GND (power), 47 GND (power), 51 VCC (power), 55 GND (power), 59 VCC (power), 63 GND (power), 67 GND (power), 71 GND (power), 75 VCC (power), 79 GND (power), 83 VCC (power), 87 GND (power), 94 GND (power), 98 VCC (power), 101 GND (power), 105 VCC (power), 110 GND (power), 116 GND (power), 123 VCC (power), 126 GND (power), 129 NC, 130 NC, 131 NC, 132 NC